# Altium schematic symbol library yu0316-NSC_LDO.SchLib: 2590 symbols (part 48 of 64)
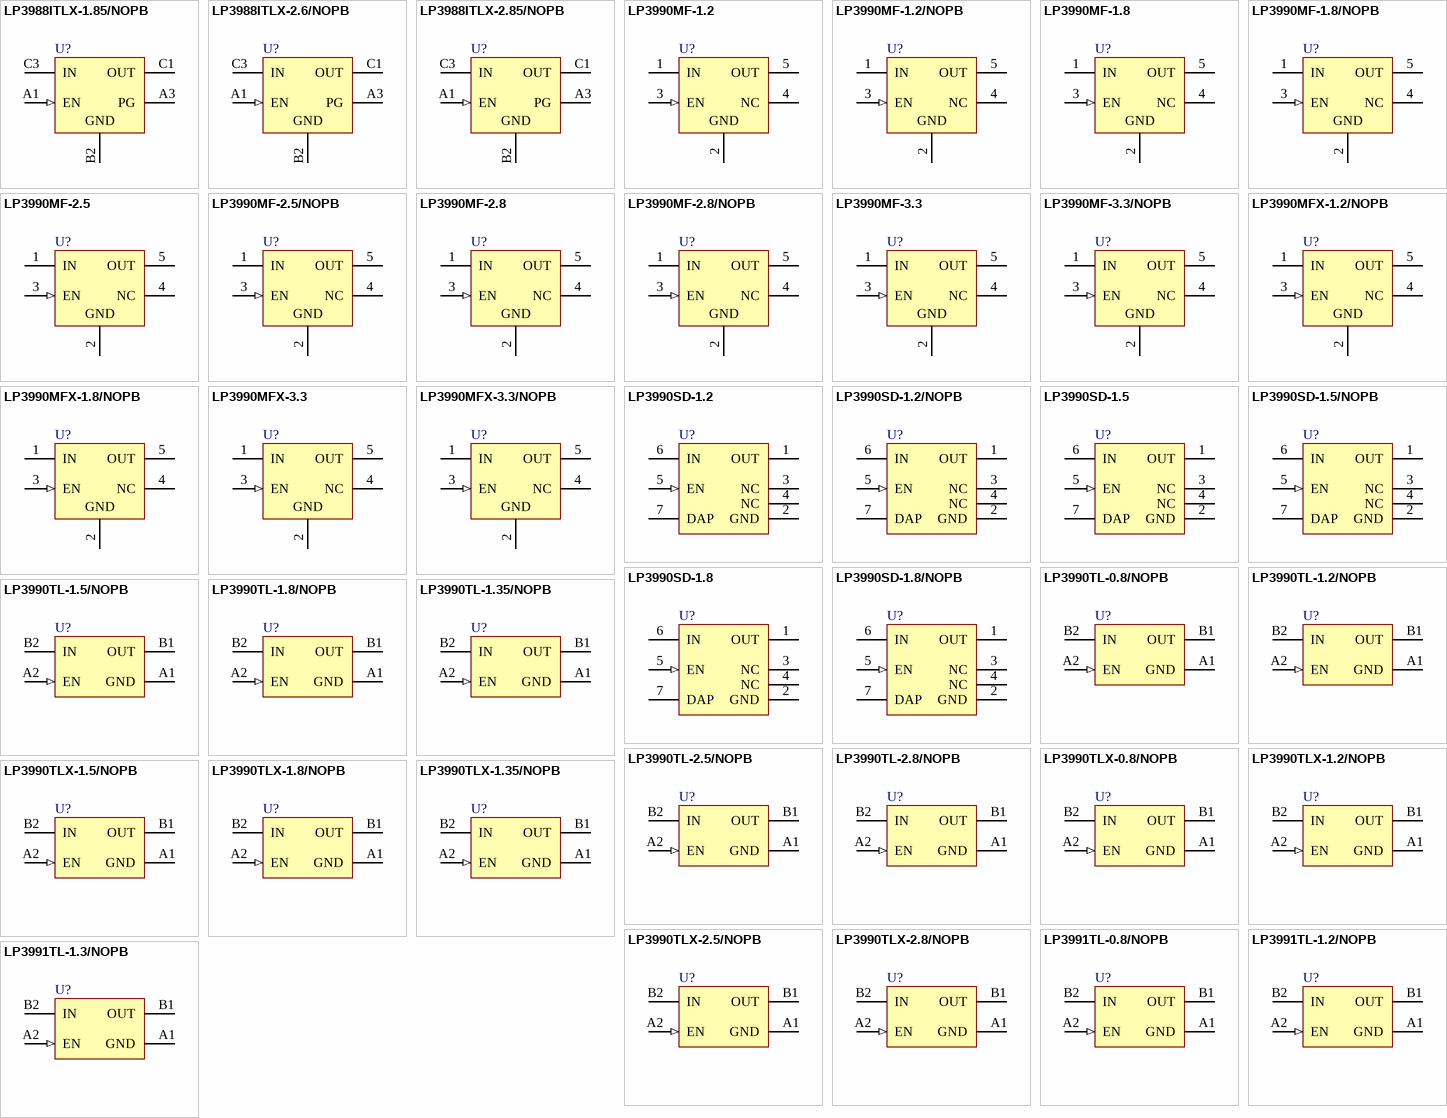
[diagram p112: symbols LP3988ITLX-1.85/NOPB to LP3991TL-1.3/NOPB]

## LP3990SD-1.2
designator U?
150mA Linear Voltage Regulator for Digital Applications, 6-pin LLP; PartNumber: LP3990SD-1.2; Manufacturer: National Semiconductor; PackageTopMarking: ZXYTT*L086B; PowerWise: N; CompType: LDO IC; Published: 4-Dec-2008; DatasheetVersion: Oct-2005; PackageVersion: revA, Jul-2003; PackageReference: SDE06A; Publisher: Altium Limited; PackageDescription: LLP, Plastic, Dual, 3 x 3 x 0.8mm Body, 6 Lead, 0.95mm Pitch, No Pullback; RoHS: N; PinCount: 6; ComponentLink1Description: LP3990 Datasheet; ComponentLink1URL: http://www.national.com/ds/LP/LP3990.pdf; ComponentLink2Description: LP3990 Web Page; ComponentLink2URL: http://www.national.com/pf/LP/LP3990.html; ComponentLink3Description: SDE06A Package Page; ComponentLink3URL: http://www.national.com/packaging/folders/sde06a.html
footprint SDE06A_full (SON, 6-Leads, Body 3x3 mm, Pitch 0.95mm, Full Paste, NSC Recommended)
footprint SDE06A_quad (SON, 6-Leads, Body 3x3 mm, Pitch 0.95mm, Quad Paste, NSC Recommended)
pins: 1 OUT (power), 2 GND (power), 3 NC, 4 NC, 5 EN (in), 6 IN (power), 7 DAP (power)

## LP3990SD-1.2/NOPB
designator U?
150mA Linear Voltage Regulator for Digital Applications, 6-pin LLP, Pb-Free; PartNumber: LP3990SD-1.2/NOPB; Manufacturer: National Semiconductor; PackageTopMarking: ZXYTT*L086B; PowerWise: N; CompType: LDO IC; Published: 1-Mar-2010; DatasheetVersion: Oct-2005; PackageVersion: revA, Jul-2003; PackageReference: SDE06A; Publisher: Altium Limited; PackageDescription: LLP, Plastic, Dual, 3 x 3 x 0.8mm Body, 6 Lead, 0.95mm Pitch, No Pullback; Supplier 1: Digi-Key; Supplier Part Number 1: LP3990SD-1.2TR-ND; Supplier 2: Digi-Key; Supplier Part Number 2: LP3990SD-1.2CT-ND; Supplier 3: Digi-Key; Supplier Part Number 3: LP3990SD-1.2DKR-ND; RoHS: Y; PinCount: 6; ComponentLink1Description: LP3990 Datasheet; ComponentLink1URL: http://www.national.com/ds/LP/LP3990.pdf; ComponentLink2Description: LP3990 Web Page; ComponentLink2URL: http://www.national.com/pf/LP/LP3990.html; ComponentLink3Description: SDE06A Package Page; ComponentLink3URL: http://www.national.com/packaging/folders/sde06a.html
footprint SDE06A_full (SON, 6-Leads, Body 3x3 mm, Pitch 0.95mm, Full Paste, NSC Recommended)
footprint SDE06A_quad (SON, 6-Leads, Body 3x3 mm, Pitch 0.95mm, Quad Paste, NSC Recommended)
pins: 1 OUT (power), 2 GND (power), 3 NC, 4 NC, 5 EN (in), 6 IN (power), 7 DAP (power)

## LP3990SD-1.5
designator U?
150mA Linear Voltage Regulator for Digital Applications, 6-pin LLP; PartNumber: LP3990SD-1.5; Manufacturer: National Semiconductor; PackageTopMarking: ZXYTT*L087B; PowerWise: N; CompType: LDO IC; Published: 4-Dec-2008; DatasheetVersion: Oct-2005; PackageVersion: revA, Jul-2003; PackageReference: SDE06A; Publisher: Altium Limited; PackageDescription: LLP, Plastic, Dual, 3 x 3 x 0.8mm Body, 6 Lead, 0.95mm Pitch, No Pullback; RoHS: N; PinCount: 6; ComponentLink1Description: LP3990 Datasheet; ComponentLink1URL: http://www.national.com/ds/LP/LP3990.pdf; ComponentLink2Description: LP3990 Web Page; ComponentLink2URL: http://www.national.com/pf/LP/LP3990.html; ComponentLink3Description: SDE06A Package Page; ComponentLink3URL: http://www.national.com/packaging/folders/sde06a.html
footprint SDE06A_full (SON, 6-Leads, Body 3x3 mm, Pitch 0.95mm, Full Paste, NSC Recommended)
footprint SDE06A_quad (SON, 6-Leads, Body 3x3 mm, Pitch 0.95mm, Quad Paste, NSC Recommended)
pins: 1 OUT (power), 2 GND (power), 3 NC, 4 NC, 5 EN (in), 6 IN (power), 7 DAP (power)

## LP3990SD-1.5/NOPB
designator U?
150mA Linear Voltage Regulator for Digital Applications, 6-pin LLP, Pb-Free; PartNumber: LP3990SD-1.5/NOPB; Manufacturer: National Semiconductor; PackageTopMarking: ZXYTT*L087B; PowerWise: N; CompType: LDO IC; Published: 1-Mar-2010; DatasheetVersion: Oct-2005; PackageVersion: revA, Jul-2003; PackageReference: SDE06A; Publisher: Altium Limited; PackageDescription: LLP, Plastic, Dual, 3 x 3 x 0.8mm Body, 6 Lead, 0.95mm Pitch, No Pullback; Supplier 1: Digi-Key; Supplier Part Number 1: LP3990SD-1.5TR-ND; Supplier 2: Digi-Key; Supplier Part Number 2: LP3990SD-1.5CT-ND; Supplier 3: Digi-Key; Supplier Part Number 3: LP3990SD-1.5DKR-ND; RoHS: Y; PinCount: 6; ComponentLink1Description: LP3990 Datasheet; ComponentLink1URL: http://www.national.com/ds/LP/LP3990.pdf; ComponentLink2Description: LP3990 Web Page; ComponentLink2URL: http://www.national.com/pf/LP/LP3990.html; ComponentLink3Description: SDE06A Package Page; ComponentLink3URL: http://www.national.com/packaging/folders/sde06a.html
footprint SDE06A_full (SON, 6-Leads, Body 3x3 mm, Pitch 0.95mm, Full Paste, NSC Recommended)
footprint SDE06A_quad (SON, 6-Leads, Body 3x3 mm, Pitch 0.95mm, Quad Paste, NSC Recommended)
pins: 1 OUT (power), 2 GND (power), 3 NC, 4 NC, 5 EN (in), 6 IN (power), 7 DAP (power)

## LP3990SD-1.8
designator U?
150mA Linear Voltage Regulator for Digital Applications, 6-pin LLP; PartNumber: LP3990SD-1.8; Manufacturer: National Semiconductor; PackageTopMarking: ZXYTT*L088B; PowerWise: N; CompType: LDO IC; Published: 4-Dec-2008; DatasheetVersion: Oct-2005; PackageVersion: revA, Jul-2003; PackageReference: SDE06A; Publisher: Altium Limited; PackageDescription: LLP, Plastic, Dual, 3 x 3 x 0.8mm Body, 6 Lead, 0.95mm Pitch, No Pullback; RoHS: N; PinCount: 6; ComponentLink1Description: LP3990 Datasheet; ComponentLink1URL: http://www.national.com/ds/LP/LP3990.pdf; ComponentLink2Description: LP3990 Web Page; ComponentLink2URL: http://www.national.com/pf/LP/LP3990.html; ComponentLink3Description: SDE06A Package Page; ComponentLink3URL: http://www.national.com/packaging/folders/sde06a.html
footprint SDE06A_full (SON, 6-Leads, Body 3x3 mm, Pitch 0.95mm, Full Paste, NSC Recommended)
footprint SDE06A_quad (SON, 6-Leads, Body 3x3 mm, Pitch 0.95mm, Quad Paste, NSC Recommended)
pins: 1 OUT (power), 2 GND (power), 3 NC, 4 NC, 5 EN (in), 6 IN (power), 7 DAP (power)

## LP3990SD-1.8/NOPB
designator U?
150mA Linear Voltage Regulator for Digital Applications, 6-pin LLP, Pb-Free; PartNumber: LP3990SD-1.8/NOPB; Manufacturer: National Semiconductor; PackageTopMarking: ZXYTT*L088B; PowerWise: N; CompType: LDO IC; Published: 1-Mar-2010; DatasheetVersion: Oct-2005; PackageVersion: revA, Jul-2003; PackageReference: SDE06A; Publisher: Altium Limited; PackageDescription: LLP, Plastic, Dual, 3 x 3 x 0.8mm Body, 6 Lead, 0.95mm Pitch, No Pullback; Supplier 1: Digi-Key; Supplier Part Number 1: LP3990SD-1.8TR-ND; Supplier 2: Digi-Key; Supplier Part Number 2: LP3990SD-1.8CT-ND; Supplier 3: Digi-Key; Supplier Part Number 3: LP3990SD-1.8DKR-ND; RoHS: Y; PinCount: 6; ComponentLink1Description: LP3990 Datasheet; ComponentLink1URL: http://www.national.com/ds/LP/LP3990.pdf; ComponentLink2Description: LP3990 Web Page; ComponentLink2URL: http://www.national.com/pf/LP/LP3990.html; ComponentLink3Description: SDE06A Package Page; ComponentLink3URL: http://www.national.com/packaging/folders/sde06a.html
footprint SDE06A_full (SON, 6-Leads, Body 3x3 mm, Pitch 0.95mm, Full Paste, NSC Recommended)
footprint SDE06A_quad (SON, 6-Leads, Body 3x3 mm, Pitch 0.95mm, Quad Paste, NSC Recommended)
pins: 1 OUT (power), 2 GND (power), 3 NC, 4 NC, 5 EN (in), 6 IN (power), 7 DAP (power)

## LP3990TL-0.8/NOPB
designator U?
150mA Linear Voltage Regulator for Digital Applications, 4-pin Micro SMD, Pb-Free; PartNumber: LP3990TL-0.8/NOPB; Manufacturer: National Semiconductor; PackageTopMarking: X*I; PowerWise: N; CompType: LDO IC; Published: 1-Mar-2010; DatasheetVersion: Oct-2005; PackageVersion: revD, Mar-2005; PackageReference: TLA04AMA; Publisher: Altium Limited; PackageDescription: Thin Micro SMD, 4 Bump (Large), 0.5mm Pitch; RoHS: Y; PinCount: 4; Code_JEDEC: MO-211-BA; ComponentLink1Description: LP3990 Datasheet; ComponentLink1URL: http://www.national.com/ds/LP/LP3990.pdf; ComponentLink2Description: LP3990 Web Page; ComponentLink2URL: http://www.national.com/pf/LP/LP3990.html; ComponentLink3Description: TLA04AMA Package Page; ComponentLink3URL: http://www.national.com/packaging/folders/tla04ama.html
footprint TLA04AMA (Micro SMD, 4-Leads, Body 1.29x1.01mm, Pitch 0.5mm, NSC Recommended)
pins: A1 GND (power), A2 EN (in), B1 OUT (power), B2 IN (power)

## LP3990TL-1.2/NOPB
designator U?
150mA Linear Voltage Regulator for Digital Applications, 4-pin Micro SMD, Pb-Free; PartNumber: LP3990TL-1.2/NOPB; Manufacturer: National Semiconductor; PackageTopMarking: X*I; PowerWise: N; CompType: LDO IC; Published: 1-Mar-2010; DatasheetVersion: Oct-2005; PackageVersion: revD, Mar-2005; PackageReference: TLA04AMA; Publisher: Altium Limited; PackageDescription: Thin Micro SMD, 4 Bump (Large), 0.5mm Pitch; Supplier 1: Digi-Key; Supplier Part Number 1: LP3990TL-1.2TR-ND; Supplier 2: Digi-Key; Supplier Part Number 2: LP3990TL-1.2CT-ND; Supplier 3: Digi-Key; Supplier Part Number 3: LP3990TL-1.2DKR-ND; RoHS: Y; PinCount: 4; Code_JEDEC: MO-211-BA; ComponentLink1Description: LP3990 Datasheet; ComponentLink1URL: http://www.national.com/ds/LP/LP3990.pdf; ComponentLink2Description: LP3990 Web Page; ComponentLink2URL: http://www.national.com/pf/LP/LP3990.html; ComponentLink3Description: TLA04AMA Package Page; ComponentLink3URL: http://www.national.com/packaging/folders/tla04ama.html
footprint TLA04AMA (Micro SMD, 4-Leads, Body 1.29x1.01mm, Pitch 0.5mm, NSC Recommended)
pins: A1 GND (power), A2 EN (in), B1 OUT (power), B2 IN (power)

## LP3990TL-1.5/NOPB
designator U?
150mA Linear Voltage Regulator for Digital Applications, 4-pin Micro SMD, Pb-Free; PartNumber: LP3990TL-1.5/NOPB; Manufacturer: National Semiconductor; PackageTopMarking: X*I; PowerWise: N; CompType: LDO IC; Published: 1-Mar-2010; DatasheetVersion: Oct-2005; PackageVersion: revD, Mar-2005; PackageReference: TLA04AMA; Publisher: Altium Limited; PackageDescription: Thin Micro SMD, 4 Bump (Large), 0.5mm Pitch; Supplier 1: Digi-Key; Supplier Part Number 1: LP3990TL-1.5TR-ND; Supplier 2: Digi-Key; Supplier Part Number 2: LP3990TL-1.5CT-ND; Supplier 3: Digi-Key; Supplier Part Number 3: LP3990TL-1.5DKR-ND; RoHS: Y; PinCount: 4; Code_JEDEC: MO-211-BA; ComponentLink1Description: LP3990 Datasheet; ComponentLink1URL: http://www.national.com/ds/LP/LP3990.pdf; ComponentLink2Description: LP3990 Web Page; ComponentLink2URL: http://www.national.com/pf/LP/LP3990.html; ComponentLink3Description: TLA04AMA Package Page; ComponentLink3URL: http://www.national.com/packaging/folders/tla04ama.html
footprint TLA04AMA (Micro SMD, 4-Leads, Body 1.29x1.01mm, Pitch 0.5mm, NSC Recommended)
pins: A1 GND (power), A2 EN (in), B1 OUT (power), B2 IN (power)

## LP3990TL-1.8/NOPB
designator U?
150mA Linear Voltage Regulator for Digital Applications, 4-pin Micro SMD, Pb-Free; PartNumber: LP3990TL-1.8/NOPB; Manufacturer: National Semiconductor; PackageTopMarking: X*I; PowerWise: N; CompType: LDO IC; Published: 1-Mar-2010; DatasheetVersion: Oct-2005; PackageVersion: revD, Mar-2005; PackageReference: TLA04AMA; Publisher: Altium Limited; PackageDescription: Thin Micro SMD, 4 Bump (Large), 0.5mm Pitch; Supplier 1: Digi-Key; Supplier Part Number 1: LP3990TL-1.8TR-ND; Supplier 2: Digi-Key; Supplier Part Number 2: LP3990TL-1.8CT-ND; Supplier 3: Digi-Key; Supplier Part Number 3: LP3990TL-1.8DKR-ND; Supplier 4: Farnell; Supplier Part Number 4: 1559711; RoHS: Y; PinCount: 4; Code_JEDEC: MO-211-BA; ComponentLink1Description: LP3990 Datasheet; ComponentLink1URL: http://www.national.com/ds/LP/LP3990.pdf; ComponentLink2Description: LP3990 Web Page; ComponentLink2URL: http://www.national.com/pf/LP/LP3990.html; ComponentLink3Description: TLA04AMA Package Page; ComponentLink3URL: http://www.national.com/packaging/folders/tla04ama.html
footprint TLA04AMA (Micro SMD, 4-Leads, Body 1.29x1.01mm, Pitch 0.5mm, NSC Recommended)
pins: A1 GND (power), A2 EN (in), B1 OUT (power), B2 IN (power)

## LP3990TL-1.35/NOPB
designator U?
150mA Linear Voltage Regulator for Digital Applications, 4-pin Micro SMD, Pb-Free; PartNumber: LP3990TL-1.35/NOPB; Manufacturer: National Semiconductor; PackageTopMarking: X*I; PowerWise: N; CompType: LDO IC; Published: 1-Mar-2010; DatasheetVersion: Oct-2005; PackageVersion: revD, Mar-2005; PackageReference: TLA04AMA; Publisher: Altium Limited; PackageDescription: Thin Micro SMD, 4 Bump (Large), 0.5mm Pitch; RoHS: Y; PinCount: 4; Code_JEDEC: MO-211-BA; ComponentLink1Description: LP3990 Datasheet; ComponentLink1URL: http://www.national.com/ds/LP/LP3990.pdf; ComponentLink2Description: LP3990 Web Page; ComponentLink2URL: http://www.national.com/pf/LP/LP3990.html; ComponentLink3Description: TLA04AMA Package Page; ComponentLink3URL: http://www.national.com/packaging/folders/tla04ama.html
footprint TLA04AMA (Micro SMD, 4-Leads, Body 1.29x1.01mm, Pitch 0.5mm, NSC Recommended)
pins: A1 GND (power), A2 EN (in), B1 OUT (power), B2 IN (power)

## LP3990TL-2.5/NOPB
designator U?
150mA Linear Voltage Regulator for Digital Applications, 4-pin Micro SMD, Pb-Free; PartNumber: LP3990TL-2.5/NOPB; Manufacturer: National Semiconductor; PackageTopMarking: X*I; PowerWise: N; CompType: LDO IC; Published: 1-Mar-2010; DatasheetVersion: Oct-2005; PackageVersion: revD, Mar-2005; PackageReference: TLA04AMA; Publisher: Altium Limited; PackageDescription: Thin Micro SMD, 4 Bump (Large), 0.5mm Pitch; Supplier 1: Digi-Key; Supplier Part Number 1: LP3990TL-2.5TR-ND; Supplier 2: Digi-Key; Supplier Part Number 2: LP3990TL-2.5CT-ND; Supplier 3: Digi-Key; Supplier Part Number 3: LP3990TL-2.5DKR-ND; RoHS: Y; PinCount: 4; Code_JEDEC: MO-211-BA; ComponentLink1Description: LP3990 Datasheet; ComponentLink1URL: http://www.national.com/ds/LP/LP3990.pdf; ComponentLink2Description: LP3990 Web Page; ComponentLink2URL: http://www.national.com/pf/LP/LP3990.html; ComponentLink3Description: TLA04AMA Package Page; ComponentLink3URL: http://www.national.com/packaging/folders/tla04ama.html
footprint TLA04AMA (Micro SMD, 4-Leads, Body 1.29x1.01mm, Pitch 0.5mm, NSC Recommended)
pins: A1 GND (power), A2 EN (in), B1 OUT (power), B2 IN (power)

## LP3990TL-2.8/NOPB
designator U?
150mA Linear Voltage Regulator for Digital Applications, 4-pin Micro SMD, Pb-Free; PartNumber: LP3990TL-2.8/NOPB; Manufacturer: National Semiconductor; PackageTopMarking: X*I; PowerWise: N; CompType: LDO IC; Published: 1-Mar-2010; DatasheetVersion: Oct-2005; PackageVersion: revD, Mar-2005; PackageReference: TLA04AMA; Publisher: Altium Limited; PackageDescription: Thin Micro SMD, 4 Bump (Large), 0.5mm Pitch; Supplier 1: Digi-Key; Supplier Part Number 1: LP3990TL-2.8TR-ND; Supplier 2: Digi-Key; Supplier Part Number 2: LP3990TL-2.8CT-ND; Supplier 3: Digi-Key; Supplier Part Number 3: LP3990TL-2.8DKR-ND; RoHS: Y; PinCount: 4; Code_JEDEC: MO-211-BA; ComponentLink1Description: LP3990 Datasheet; ComponentLink1URL: http://www.national.com/ds/LP/LP3990.pdf; ComponentLink2Description: LP3990 Web Page; ComponentLink2URL: http://www.national.com/pf/LP/LP3990.html; ComponentLink3Description: TLA04AMA Package Page; ComponentLink3URL: http://www.national.com/packaging/folders/tla04ama.html
footprint TLA04AMA (Micro SMD, 4-Leads, Body 1.29x1.01mm, Pitch 0.5mm, NSC Recommended)
pins: A1 GND (power), A2 EN (in), B1 OUT (power), B2 IN (power)

## LP3990TLX-0.8/NOPB
designator U?
150mA Linear Voltage Regulator for Digital Applications, 4-pin Micro SMD, Pb-Free; PartNumber: LP3990TLX-0.8/NOPB; Manufacturer: National Semiconductor; PackageTopMarking: X*I; PowerWise: N; CompType: LDO IC; Published: 1-Mar-2010; DatasheetVersion: Oct-2005; PackageVersion: revD, Mar-2005; PackageReference: TLA04AMA; Publisher: Altium Limited; PackageDescription: Thin Micro SMD, 4 Bump (Large), 0.5mm Pitch; Supplier 1: Digi-Key; Supplier Part Number 1: LP3990TLX-0.8-ND; RoHS: Y; PinCount: 4; Code_JEDEC: MO-211-BA; ComponentLink1Description: LP3990 Datasheet; ComponentLink1URL: http://www.national.com/ds/LP/LP3990.pdf; ComponentLink2Description: LP3990 Web Page; ComponentLink2URL: http://www.national.com/pf/LP/LP3990.html; ComponentLink3Description: TLA04AMA Package Page; ComponentLink3URL: http://www.national.com/packaging/folders/tla04ama.html
footprint TLA04AMA (Micro SMD, 4-Leads, Body 1.29x1.01mm, Pitch 0.5mm, NSC Recommended)
pins: A1 GND (power), A2 EN (in), B1 OUT (power), B2 IN (power)

## LP3990TLX-1.2/NOPB
designator U?
150mA Linear Voltage Regulator for Digital Applications, 4-pin Micro SMD, Pb-Free; PartNumber: LP3990TLX-1.2/NOPB; Manufacturer: National Semiconductor; PackageTopMarking: X*I; PowerWise: N; CompType: LDO IC; Published: 1-Mar-2010; DatasheetVersion: Oct-2005; PackageVersion: revD, Mar-2005; PackageReference: TLA04AMA; Publisher: Altium Limited; PackageDescription: Thin Micro SMD, 4 Bump (Large), 0.5mm Pitch; Supplier 1: Digi-Key; Supplier Part Number 1: LP3990TLX-1.2-ND; RoHS: Y; PinCount: 4; Code_JEDEC: MO-211-BA; ComponentLink1Description: LP3990 Datasheet; ComponentLink1URL: http://www.national.com/ds/LP/LP3990.pdf; ComponentLink2Description: LP3990 Web Page; ComponentLink2URL: http://www.national.com/pf/LP/LP3990.html; ComponentLink3Description: TLA04AMA Package Page; ComponentLink3URL: http://www.national.com/packaging/folders/tla04ama.html
footprint TLA04AMA (Micro SMD, 4-Leads, Body 1.29x1.01mm, Pitch 0.5mm, NSC Recommended)
pins: A1 GND (power), A2 EN (in), B1 OUT (power), B2 IN (power)

## LP3990TLX-1.5/NOPB
designator U?
150mA Linear Voltage Regulator for Digital Applications, 4-pin Micro SMD, Pb-Free; PartNumber: LP3990TLX-1.5/NOPB; Manufacturer: National Semiconductor; PackageTopMarking: X*I; PowerWise: N; CompType: LDO IC; Published: 1-Mar-2010; DatasheetVersion: Oct-2005; PackageVersion: revD, Mar-2005; PackageReference: TLA04AMA; Publisher: Altium Limited; PackageDescription: Thin Micro SMD, 4 Bump (Large), 0.5mm Pitch; Supplier 1: Digi-Key; Supplier Part Number 1: LP3990TLX-1.5-ND; RoHS: Y; PinCount: 4; Code_JEDEC: MO-211-BA; ComponentLink1Description: LP3990 Datasheet; ComponentLink1URL: http://www.national.com/ds/LP/LP3990.pdf; ComponentLink2Description: LP3990 Web Page; ComponentLink2URL: http://www.national.com/pf/LP/LP3990.html; ComponentLink3Description: TLA04AMA Package Page; ComponentLink3URL: http://www.national.com/packaging/folders/tla04ama.html
footprint TLA04AMA (Micro SMD, 4-Leads, Body 1.29x1.01mm, Pitch 0.5mm, NSC Recommended)
pins: A1 GND (power), A2 EN (in), B1 OUT (power), B2 IN (power)

## LP3990TLX-1.8/NOPB
designator U?
150mA Linear Voltage Regulator for Digital Applications, 4-pin Micro SMD, Pb-Free; PartNumber: LP3990TLX-1.8/NOPB; Manufacturer: National Semiconductor; PackageTopMarking: X*I; PowerWise: N; CompType: LDO IC; Published: 1-Mar-2010; DatasheetVersion: Oct-2005; PackageVersion: revD, Mar-2005; PackageReference: TLA04AMA; Publisher: Altium Limited; PackageDescription: Thin Micro SMD, 4 Bump (Large), 0.5mm Pitch; Supplier 1: Digi-Key; Supplier Part Number 1: LP3990TLX-1.8-ND; RoHS: Y; PinCount: 4; Code_JEDEC: MO-211-BA; ComponentLink1Description: LP3990 Datasheet; ComponentLink1URL: http://www.national.com/ds/LP/LP3990.pdf; ComponentLink2Description: LP3990 Web Page; ComponentLink2URL: http://www.national.com/pf/LP/LP3990.html; ComponentLink3Description: TLA04AMA Package Page; ComponentLink3URL: http://www.national.com/packaging/folders/tla04ama.html
footprint TLA04AMA (Micro SMD, 4-Leads, Body 1.29x1.01mm, Pitch 0.5mm, NSC Recommended)
pins: A1 GND (power), A2 EN (in), B1 OUT (power), B2 IN (power)

## LP3990TLX-1.35/NOPB
designator U?
150mA Linear Voltage Regulator for Digital Applications, 4-pin Micro SMD, Pb-Free; PartNumber: LP3990TLX-1.35/NOPB; Manufacturer: National Semiconductor; PackageTopMarking: X*I; PowerWise: N; CompType: LDO IC; Published: 1-Mar-2010; DatasheetVersion: Oct-2005; PackageVersion: revD, Mar-2005; PackageReference: TLA04AMA; Publisher: Altium Limited; PackageDescription: Thin Micro SMD, 4 Bump (Large), 0.5mm Pitch; Supplier 1: Digi-Key; Supplier Part Number 1: LP3990TLX-1.35-ND; RoHS: Y; PinCount: 4; Code_JEDEC: MO-211-BA; ComponentLink1Description: LP3990 Datasheet; ComponentLink1URL: http://www.national.com/ds/LP/LP3990.pdf; ComponentLink2Description: LP3990 Web Page; ComponentLink2URL: http://www.national.com/pf/LP/LP3990.html; ComponentLink3Description: TLA04AMA Package Page; ComponentLink3URL: http://www.national.com/packaging/folders/tla04ama.html
footprint TLA04AMA (Micro SMD, 4-Leads, Body 1.29x1.01mm, Pitch 0.5mm, NSC Recommended)
pins: A1 GND (power), A2 EN (in), B1 OUT (power), B2 IN (power)

## LP3990TLX-2.5/NOPB
designator U?
150mA Linear Voltage Regulator for Digital Applications, 4-pin Micro SMD, Pb-Free; PartNumber: LP3990TLX-2.5/NOPB; Manufacturer: National Semiconductor; PackageTopMarking: X*I; PowerWise: N; CompType: LDO IC; Published: 1-Mar-2010; DatasheetVersion: Oct-2005; PackageVersion: revD, Mar-2005; PackageReference: TLA04AMA; Publisher: Altium Limited; PackageDescription: Thin Micro SMD, 4 Bump (Large), 0.5mm Pitch; Supplier 1: Digi-Key; Supplier Part Number 1: LP3990TLX-2.5-ND; RoHS: Y; PinCount: 4; Code_JEDEC: MO-211-BA; ComponentLink1Description: LP3990 Datasheet; ComponentLink1URL: http://www.national.com/ds/LP/LP3990.pdf; ComponentLink2Description: LP3990 Web Page; ComponentLink2URL: http://www.national.com/pf/LP/LP3990.html; ComponentLink3Description: TLA04AMA Package Page; ComponentLink3URL: http://www.national.com/packaging/folders/tla04ama.html
footprint TLA04AMA (Micro SMD, 4-Leads, Body 1.29x1.01mm, Pitch 0.5mm, NSC Recommended)
pins: A1 GND (power), A2 EN (in), B1 OUT (power), B2 IN (power)

## LP3990TLX-2.8/NOPB
designator U?
150mA Linear Voltage Regulator for Digital Applications, 4-pin Micro SMD, Pb-Free; PartNumber: LP3990TLX-2.8/NOPB; Manufacturer: National Semiconductor; PackageTopMarking: X*I; PowerWise: N; CompType: LDO IC; Published: 1-Mar-2010; DatasheetVersion: Oct-2005; PackageVersion: revD, Mar-2005; PackageReference: TLA04AMA; Publisher: Altium Limited; PackageDescription: Thin Micro SMD, 4 Bump (Large), 0.5mm Pitch; Supplier 1: Digi-Key; Supplier Part Number 1: LP3990TLX-2.8-ND; RoHS: Y; PinCount: 4; Code_JEDEC: MO-211-BA; ComponentLink1Description: LP3990 Datasheet; ComponentLink1URL: http://www.national.com/ds/LP/LP3990.pdf; ComponentLink2Description: LP3990 Web Page; ComponentLink2URL: http://www.national.com/pf/LP/LP3990.html; ComponentLink3Description: TLA04AMA Package Page; ComponentLink3URL: http://www.national.com/packaging/folders/tla04ama.html
footprint TLA04AMA (Micro SMD, 4-Leads, Body 1.29x1.01mm, Pitch 0.5mm, NSC Recommended)
pins: A1 GND (power), A2 EN (in), B1 OUT (power), B2 IN (power)

## LP3991TL-0.8/NOPB
designator U?
300mA Linear Voltage Regulator for Digital Applications, 4-pin Micro SMD, Pb-Free; PartNumber: LP3991TL-0.8/NOPB; Manufacturer: National Semiconductor; PackageTopMarking: X*I; PowerWise: N; CompType: LDO IC; Published: 1-Mar-2010; DatasheetVersion: Sep-2008; PackageVersion: revD, Mar-2005; PackageReference: TLA04ZTA; Publisher: Altium Limited; PackageDescription: Thin Micro SMD, 4 Bump (Large), 0.5mm Pitch; Supplier 1: Digi-Key; Supplier Part Number 1: LP3991TL-0.8/NOPBTR-ND; Supplier 2: Digi-Key; Supplier Part Number 2: LP3991TL-0.8/NOPBCT-ND; Supplier 3: Digi-Key; Supplier Part Number 3: LP3991TL-0.8/NOPBDKR-ND; RoHS: Y; PinCount: 4; Code_JEDEC: MO-211-BA; ComponentLink1Description: LP3991 Datasheet; ComponentLink1URL: http://www.national.com/ds/LP/LP3991.pdf; ComponentLink2Description: LP3991 Web Page; ComponentLink2URL: http://www.national.com/pf/LP/LP3991.html; ComponentLink3Description: TLA04ZTA Package Page; ComponentLink3URL: http://www.national.com/packaging/folders/tla04zta.html
footprint TLA04ZTA (Micro SMD, 4-Leads, Body 1.45x0.96mm, Pitch 0.5mm, NSC Recommended)
pins: A1 GND (power), A2 EN (in), B1 OUT (power), B2 IN (power)

## LP3991TL-1.2/NOPB
designator U?
300mA Linear Voltage Regulator for Digital Applications, 4-pin Micro SMD, Pb-Free; PartNumber: LP3991TL-1.2/NOPB; Manufacturer: National Semiconductor; PackageTopMarking: X*I; PowerWise: Y; CompType: LDO IC; Published: 1-Mar-2010; DatasheetVersion: Sep-2008; PackageVersion: revD, Mar-2005; PackageReference: TLA04ZTA; Publisher: Altium Limited; PackageDescription: Thin Micro SMD, 4 Bump (Large), 0.5mm Pitch; Supplier 1: Digi-Key; Supplier Part Number 1: LP3991TL-1.2TR-ND; Supplier 2: Digi-Key; Supplier Part Number 2: LP3991TL-1.2CT-ND; Supplier 3: Digi-Key; Supplier Part Number 3: LP3991TL-1.2DKR-ND; RoHS: Y; PinCount: 4; Code_JEDEC: MO-211-BA; ComponentLink1Description: LP3991 Datasheet; ComponentLink1URL: http://www.national.com/ds/LP/LP3991.pdf; ComponentLink2Description: LP3991 Web Page; ComponentLink2URL: http://www.national.com/pf/LP/LP3991.html; ComponentLink3Description: TLA04ZTA Package Page; ComponentLink3URL: http://www.national.com/packaging/folders/tla04zta.html
footprint TLA04ZTA (Micro SMD, 4-Leads, Body 1.45x0.96mm, Pitch 0.5mm, NSC Recommended)
pins: A1 GND (power), A2 EN (in), B1 OUT (power), B2 IN (power)

## LP3991TL-1.3/NOPB
designator U?
300mA Linear Voltage Regulator for Digital Applications, 4-pin Micro SMD, Pb-Free; PartNumber: LP3991TL-1.3/NOPB; Manufacturer: National Semiconductor; PackageTopMarking: X*I; PowerWise: Y; CompType: LDO IC; Published: 1-Mar-2010; DatasheetVersion: Sep-2008; PackageVersion: revD, Mar-2005; PackageReference: TLA04ZTA; Publisher: Altium Limited; PackageDescription: Thin Micro SMD, 4 Bump (Large), 0.5mm Pitch; Supplier 1: Digi-Key; Supplier Part Number 1: LP3991TL-1.3TR-ND; Supplier 2: Digi-Key; Supplier Part Number 2: LP3991TL-1.3CT-ND; RoHS: Y; PinCount: 4; Code_JEDEC: MO-211-BA; ComponentLink1Description: LP3991 Datasheet; ComponentLink1URL: http://www.national.com/ds/LP/LP3991.pdf; ComponentLink2Description: LP3991 Web Page; ComponentLink2URL: http://www.national.com/pf/LP/LP3991.html; ComponentLink3Description: TLA04ZTA Package Page; ComponentLink3URL: http://www.national.com/packaging/folders/tla04zta.html
footprint TLA04ZTA (Micro SMD, 4-Leads, Body 1.45x0.96mm, Pitch 0.5mm, NSC Recommended)
pins: A1 GND (power), A2 EN (in), B1 OUT (power), B2 IN (power)

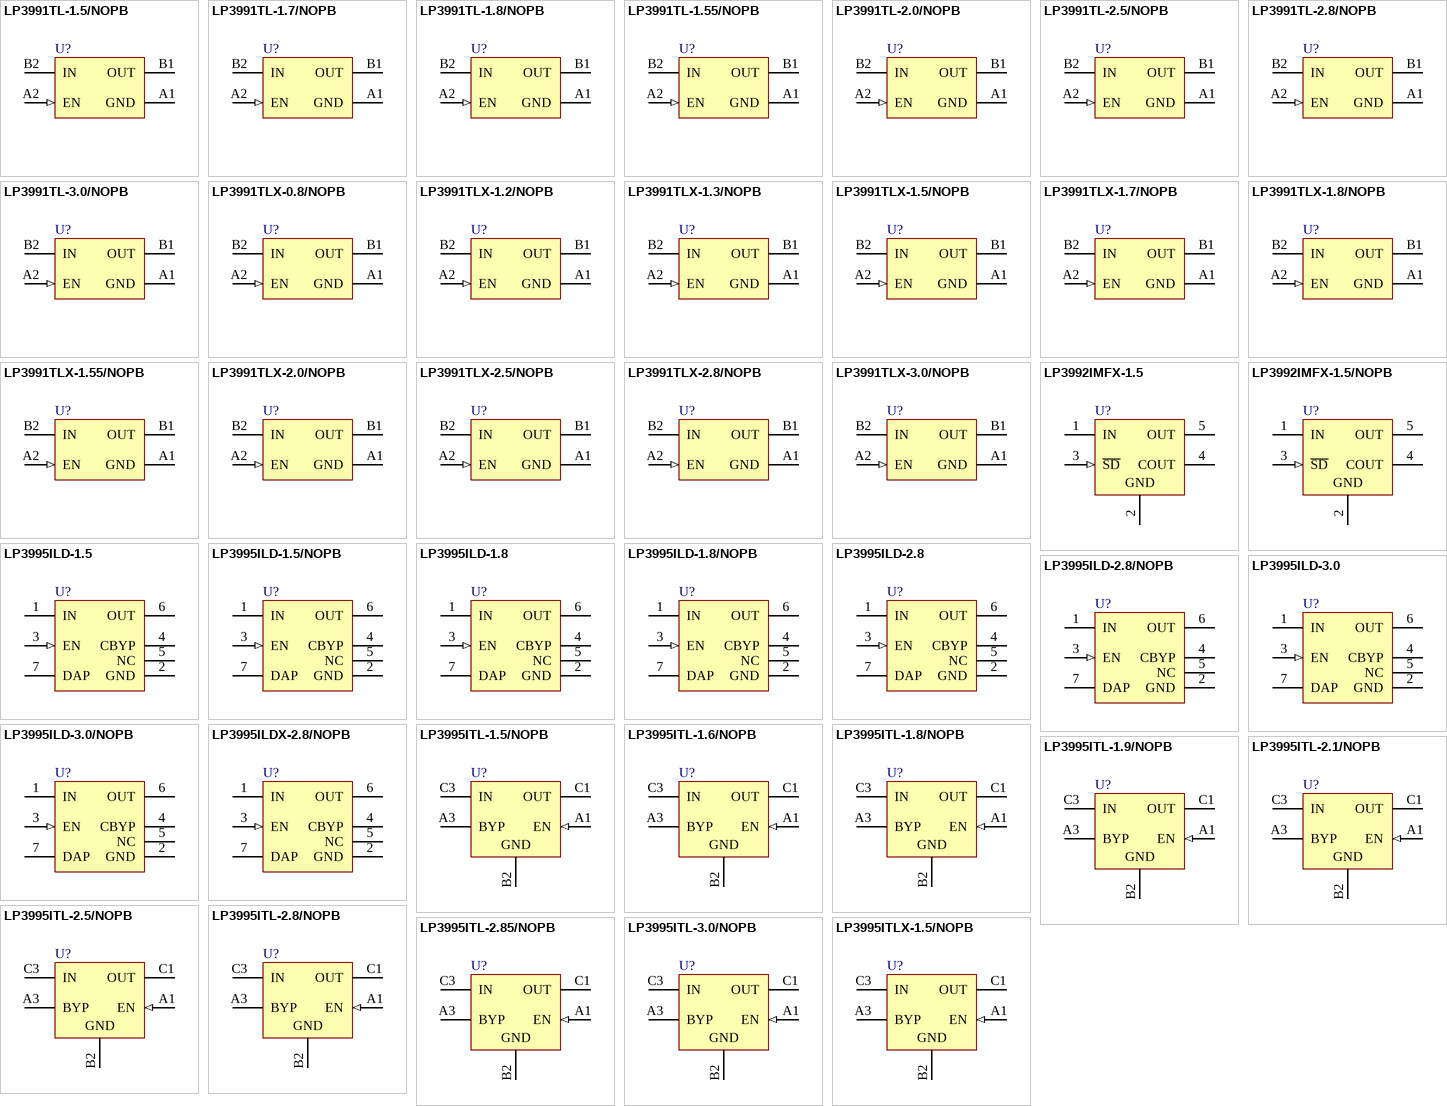
[diagram p49: symbols LP3991TL-1.5/NOPB to LP3995ITLX-1.5/NOPB]

## LP3991TL-1.5/NOPB
designator U?
300mA Linear Voltage Regulator for Digital Applications, 4-pin Micro SMD, Pb-Free; PartNumber: LP3991TL-1.5/NOPB; Manufacturer: National Semiconductor; PackageTopMarking: X*I; PowerWise: Y; CompType: LDO IC; Published: 1-Mar-2010; DatasheetVersion: Sep-2008; PackageVersion: revD, Mar-2005; PackageReference: TLA04ZTA; Publisher: Altium Limited; PackageDescription: Thin Micro SMD, 4 Bump (Large), 0.5mm Pitch; Supplier 1: Digi-Key; Supplier Part Number 1: LP3991TL-1.5TR-ND; Supplier 2: Digi-Key; Supplier Part Number 2: LP3991TL-1.5CT-ND; Supplier 3: Digi-Key; Supplier Part Number 3: LP3991TL-1.5DKR-ND; RoHS: Y; PinCount: 4; Code_JEDEC: MO-211-BA; ComponentLink1Description: LP3991 Datasheet; ComponentLink1URL: http://www.national.com/ds/LP/LP3991.pdf; ComponentLink2Description: LP3991 Web Page; ComponentLink2URL: http://www.national.com/pf/LP/LP3991.html; ComponentLink3Description: TLA04ZTA Package Page; ComponentLink3URL: http://www.national.com/packaging/folders/tla04zta.html
footprint TLA04ZTA (Micro SMD, 4-Leads, Body 1.45x0.96mm, Pitch 0.5mm, NSC Recommended)
pins: A1 GND (power), A2 EN (in), B1 OUT (power), B2 IN (power)

## LP3991TL-1.7/NOPB
designator U?
300mA Linear Voltage Regulator for Digital Applications, 4-pin Micro SMD, Pb-Free; PartNumber: LP3991TL-1.7/NOPB; Manufacturer: National Semiconductor; PackageTopMarking: X*I; PowerWise: N; CompType: LDO IC; Published: 1-Mar-2010; DatasheetVersion: Sep-2008; PackageVersion: revD, Mar-2005; PackageReference: TLA04ZTA; Publisher: Altium Limited; PackageDescription: Thin Micro SMD, 4 Bump (Large), 0.5mm Pitch; Supplier 1: Digi-Key; Supplier Part Number 1: LP3991TL-1.7/NOPBTR-ND; Supplier 2: Digi-Key; Supplier Part Number 2: LP3991TL-1.7/NOPBCT-ND; Supplier 3: Digi-Key; Supplier Part Number 3: LP3991TL-1.7/NOPBDKR-ND; RoHS: Y; PinCount: 4; Code_JEDEC: MO-211-BA; ComponentLink1Description: LP3991 Datasheet; ComponentLink1URL: http://www.national.com/ds/LP/LP3991.pdf; ComponentLink2Description: LP3991 Web Page; ComponentLink2URL: http://www.national.com/pf/LP/LP3991.html; ComponentLink3Description: TLA04ZTA Package Page; ComponentLink3URL: http://www.national.com/packaging/folders/tla04zta.html
footprint TLA04ZTA (Micro SMD, 4-Leads, Body 1.45x0.96mm, Pitch 0.5mm, NSC Recommended)
pins: A1 GND (power), A2 EN (in), B1 OUT (power), B2 IN (power)

## LP3991TL-1.8/NOPB
designator U?
300mA Linear Voltage Regulator for Digital Applications, 4-pin Micro SMD, Pb-Free; PartNumber: LP3991TL-1.8/NOPB; Manufacturer: National Semiconductor; PackageTopMarking: X*I; PowerWise: N; CompType: LDO IC; Published: 1-Mar-2010; DatasheetVersion: Sep-2008; PackageVersion: revD, Mar-2005; PackageReference: TLA04ZTA; Publisher: Altium Limited; PackageDescription: Thin Micro SMD, 4 Bump (Large), 0.5mm Pitch; Supplier 1: Digi-Key; Supplier Part Number 1: LP3991TL-1.8TR-ND; Supplier 2: Digi-Key; Supplier Part Number 2: LP3991TL-1.8CT-ND; Supplier 3: Digi-Key; Supplier Part Number 3: LP3991TL-1.8DKR-ND; RoHS: Y; PinCount: 4; Code_JEDEC: MO-211-BA; ComponentLink1Description: LP3991 Datasheet; ComponentLink1URL: http://www.national.com/ds/LP/LP3991.pdf; ComponentLink2Description: LP3991 Web Page; ComponentLink2URL: http://www.national.com/pf/LP/LP3991.html; ComponentLink3Description: TLA04ZTA Package Page; ComponentLink3URL: http://www.national.com/packaging/folders/tla04zta.html
footprint TLA04ZTA (Micro SMD, 4-Leads, Body 1.45x0.96mm, Pitch 0.5mm, NSC Recommended)
pins: A1 GND (power), A2 EN (in), B1 OUT (power), B2 IN (power)

## LP3991TL-1.55/NOPB
designator U?
300mA Linear Voltage Regulator for Digital Applications, 4-pin Micro SMD, Pb-Free; PartNumber: LP3991TL-1.55/NOPB; Manufacturer: National Semiconductor; PackageTopMarking: X*I; PowerWise: N; CompType: LDO IC; Published: 1-Mar-2010; DatasheetVersion: Sep-2008; PackageVersion: revD, Mar-2005; PackageReference: TLA04ZTA; Publisher: Altium Limited; PackageDescription: Thin Micro SMD, 4 Bump (Large), 0.5mm Pitch; Supplier 1: Digi-Key; Supplier Part Number 1: LP3991TL-1.55/NOPBTR-ND; Supplier 2: Digi-Key; Supplier Part Number 2: LP3991TL-1.55/NOPBCT-ND; Supplier 3: Digi-Key; Supplier Part Number 3: LP3991TL-1.55/NOPBDKR-ND; RoHS: Y; PinCount: 4; Code_JEDEC: MO-211-BA; ComponentLink1Description: LP3991 Datasheet; ComponentLink1URL: http://www.national.com/ds/LP/LP3991.pdf; ComponentLink2Description: LP3991 Web Page; ComponentLink2URL: http://www.national.com/pf/LP/LP3991.html; ComponentLink3Description: TLA04ZTA Package Page; ComponentLink3URL: http://www.national.com/packaging/folders/tla04zta.html
footprint TLA04ZTA (Micro SMD, 4-Leads, Body 1.45x0.96mm, Pitch 0.5mm, NSC Recommended)
pins: A1 GND (power), A2 EN (in), B1 OUT (power), B2 IN (power)

## LP3991TL-2.0/NOPB
designator U?
300mA Linear Voltage Regulator for Digital Applications, 4-pin Micro SMD, Pb-Free; PartNumber: LP3991TL-2.0/NOPB; Manufacturer: National Semiconductor; PackageTopMarking: X*I; PowerWise: N; CompType: LDO IC; Published: 1-Mar-2010; DatasheetVersion: Sep-2008; PackageVersion: revD, Mar-2005; PackageReference: TLA04ZTA; Publisher: Altium Limited; PackageDescription: Thin Micro SMD, 4 Bump (Large), 0.5mm Pitch; Supplier 1: Digi-Key; Supplier Part Number 1: LP3991TL-2.0/NOPBTR-ND; Supplier 2: Digi-Key; Supplier Part Number 2: LP3991TL-2.0/NOPBCT-ND; Supplier 3: Digi-Key; Supplier Part Number 3: LP3991TL-2.0/NOPBDKR-ND; RoHS: Y; PinCount: 4; Code_JEDEC: MO-211-BA; ComponentLink1Description: LP3991 Datasheet; ComponentLink1URL: http://www.national.com/ds/LP/LP3991.pdf; ComponentLink2Description: LP3991 Web Page; ComponentLink2URL: http://www.national.com/pf/LP/LP3991.html; ComponentLink3Description: TLA04ZTA Package Page; ComponentLink3URL: http://www.national.com/packaging/folders/tla04zta.html
footprint TLA04ZTA (Micro SMD, 4-Leads, Body 1.45x0.96mm, Pitch 0.5mm, NSC Recommended)
pins: A1 GND (power), A2 EN (in), B1 OUT (power), B2 IN (power)

## LP3991TL-2.5/NOPB
designator U?
300mA Linear Voltage Regulator for Digital Applications, 4-pin Micro SMD, Pb-Free; PartNumber: LP3991TL-2.5/NOPB; Manufacturer: National Semiconductor; PackageTopMarking: X*I; PowerWise: N; CompType: LDO IC; Published: 1-Mar-2010; DatasheetVersion: Sep-2008; PackageVersion: revD, Mar-2005; PackageReference: TLA04ZTA; Publisher: Altium Limited; PackageDescription: Thin Micro SMD, 4 Bump (Large), 0.5mm Pitch; Supplier 1: Digi-Key; Supplier Part Number 1: LP3991TL-2.5/NOPBTR-ND; Supplier 2: Digi-Key; Supplier Part Number 2: LP3991TL-2.5/NOPBCT-ND; Supplier 3: Digi-Key; Supplier Part Number 3: LP3991TL-2.5/NOPBDKR-ND; RoHS: Y; PinCount: 4; Code_JEDEC: MO-211-BA; ComponentLink1Description: LP3991 Datasheet; ComponentLink1URL: http://www.national.com/ds/LP/LP3991.pdf; ComponentLink2Description: LP3991 Web Page; ComponentLink2URL: http://www.national.com/pf/LP/LP3991.html; ComponentLink3Description: TLA04ZTA Package Page; ComponentLink3URL: http://www.national.com/packaging/folders/tla04zta.html
footprint TLA04ZTA (Micro SMD, 4-Leads, Body 1.45x0.96mm, Pitch 0.5mm, NSC Recommended)
pins: A1 GND (power), A2 EN (in), B1 OUT (power), B2 IN (power)

## LP3991TL-2.8/NOPB
designator U?
300mA Linear Voltage Regulator for Digital Applications, 4-pin Micro SMD, Pb-Free; PartNumber: LP3991TL-2.8/NOPB; Manufacturer: National Semiconductor; PackageTopMarking: X*I; PowerWise: Y; CompType: LDO IC; Published: 1-Mar-2010; DatasheetVersion: Sep-2008; PackageVersion: revD, Mar-2005; PackageReference: TLA04ZTA; Publisher: Altium Limited; PackageDescription: Thin Micro SMD, 4 Bump (Large), 0.5mm Pitch; Supplier 1: Digi-Key; Supplier Part Number 1: LP3991TL-2.8TR-ND; Supplier 2: Digi-Key; Supplier Part Number 2: LP3991TL-2.8CT-ND; Supplier 3: Digi-Key; Supplier Part Number 3: LP3991TL-2.8DKR-ND; RoHS: Y; PinCount: 4; Code_JEDEC: MO-211-BA; ComponentLink1Description: LP3991 Datasheet; ComponentLink1URL: http://www.national.com/ds/LP/LP3991.pdf; ComponentLink2Description: LP3991 Web Page; ComponentLink2URL: http://www.national.com/pf/LP/LP3991.html; ComponentLink3Description: TLA04ZTA Package Page; ComponentLink3URL: http://www.national.com/packaging/folders/tla04zta.html
footprint TLA04ZTA (Micro SMD, 4-Leads, Body 1.45x0.96mm, Pitch 0.5mm, NSC Recommended)
pins: A1 GND (power), A2 EN (in), B1 OUT (power), B2 IN (power)

## LP3991TL-3.0/NOPB
designator U?
300mA Linear Voltage Regulator for Digital Applications, 4-pin Micro SMD, Pb-Free; PartNumber: LP3991TL-3.0/NOPB; Manufacturer: National Semiconductor; PackageTopMarking: X*I; PowerWise: N; CompType: LDO IC; Published: 1-Mar-2010; DatasheetVersion: Sep-2008; PackageVersion: revD, Mar-2005; PackageReference: TLA04ZTA; Publisher: Altium Limited; PackageDescription: Thin Micro SMD, 4 Bump (Large), 0.5mm Pitch; Supplier 1: Digi-Key; Supplier Part Number 1: LP3991TL-3.0TR-ND; Supplier 2: Digi-Key; Supplier Part Number 2: LP3991TL-3.0CT-ND; Supplier 3: Digi-Key; Supplier Part Number 3: LP3991TL-3.0DKR-ND; RoHS: Y; PinCount: 4; Code_JEDEC: MO-211-BA; ComponentLink1Description: LP3991 Datasheet; ComponentLink1URL: http://www.national.com/ds/LP/LP3991.pdf; ComponentLink2Description: LP3991 Web Page; ComponentLink2URL: http://www.national.com/pf/LP/LP3991.html; ComponentLink3Description: TLA04ZTA Package Page; ComponentLink3URL: http://www.national.com/packaging/folders/tla04zta.html
footprint TLA04ZTA (Micro SMD, 4-Leads, Body 1.45x0.96mm, Pitch 0.5mm, NSC Recommended)
pins: A1 GND (power), A2 EN (in), B1 OUT (power), B2 IN (power)

## LP3991TLX-0.8/NOPB
designator U?
300mA Linear Voltage Regulator for Digital Applications, 4-pin Micro SMD, Pb-Free; PartNumber: LP3991TLX-0.8/NOPB; Manufacturer: National Semiconductor; PackageTopMarking: X*I; PowerWise: N; CompType: LDO IC; Published: 1-Mar-2010; DatasheetVersion: Sep-2008; PackageVersion: revD, Mar-2005; PackageReference: TLA04ZTA; Publisher: Altium Limited; PackageDescription: Thin Micro SMD, 4 Bump (Large), 0.5mm Pitch; Supplier 1: Digi-Key; Supplier Part Number 1: LP3991TLX-0.8-ND; RoHS: Y; PinCount: 4; Code_JEDEC: MO-211-BA; ComponentLink1Description: LP3991 Datasheet; ComponentLink1URL: http://www.national.com/ds/LP/LP3991.pdf; ComponentLink2Description: LP3991 Web Page; ComponentLink2URL: http://www.national.com/pf/LP/LP3991.html; ComponentLink3Description: TLA04ZTA Package Page; ComponentLink3URL: http://www.national.com/packaging/folders/tla04zta.html
footprint TLA04ZTA (Micro SMD, 4-Leads, Body 1.45x0.96mm, Pitch 0.5mm, NSC Recommended)
pins: A1 GND (power), A2 EN (in), B1 OUT (power), B2 IN (power)

## LP3991TLX-1.2/NOPB
designator U?
300mA Linear Voltage Regulator for Digital Applications, 4-pin Micro SMD, Pb-Free; PartNumber: LP3991TLX-1.2/NOPB; Manufacturer: National Semiconductor; PackageTopMarking: X*I; PowerWise: Y; CompType: LDO IC; Published: 1-Mar-2010; DatasheetVersion: Sep-2008; PackageVersion: revD, Mar-2005; PackageReference: TLA04ZTA; Publisher: Altium Limited; PackageDescription: Thin Micro SMD, 4 Bump (Large), 0.5mm Pitch; Supplier 1: Digi-Key; Supplier Part Number 1: LP3991TLX-1.2-ND; RoHS: Y; PinCount: 4; Code_JEDEC: MO-211-BA; ComponentLink1Description: LP3991 Datasheet; ComponentLink1URL: http://www.national.com/ds/LP/LP3991.pdf; ComponentLink2Description: LP3991 Web Page; ComponentLink2URL: http://www.national.com/pf/LP/LP3991.html; ComponentLink3Description: TLA04ZTA Package Page; ComponentLink3URL: http://www.national.com/packaging/folders/tla04zta.html
footprint TLA04ZTA (Micro SMD, 4-Leads, Body 1.45x0.96mm, Pitch 0.5mm, NSC Recommended)
pins: A1 GND (power), A2 EN (in), B1 OUT (power), B2 IN (power)

## LP3991TLX-1.3/NOPB
designator U?
300mA Linear Voltage Regulator for Digital Applications, 4-pin Micro SMD, Pb-Free; PartNumber: LP3991TLX-1.3/NOPB; Manufacturer: National Semiconductor; PackageTopMarking: X*I; PowerWise: Y; CompType: LDO IC; Published: 1-Mar-2010; DatasheetVersion: Sep-2008; PackageVersion: revD, Mar-2005; PackageReference: TLA04ZTA; Publisher: Altium Limited; PackageDescription: Thin Micro SMD, 4 Bump (Large), 0.5mm Pitch; Supplier 1: Digi-Key; Supplier Part Number 1: LP3991TLX-1.3-ND; RoHS: Y; PinCount: 4; Code_JEDEC: MO-211-BA; ComponentLink1Description: LP3991 Datasheet; ComponentLink1URL: http://www.national.com/ds/LP/LP3991.pdf; ComponentLink2Description: LP3991 Web Page; ComponentLink2URL: http://www.national.com/pf/LP/LP3991.html; ComponentLink3Description: TLA04ZTA Package Page; ComponentLink3URL: http://www.national.com/packaging/folders/tla04zta.html
footprint TLA04ZTA (Micro SMD, 4-Leads, Body 1.45x0.96mm, Pitch 0.5mm, NSC Recommended)
pins: A1 GND (power), A2 EN (in), B1 OUT (power), B2 IN (power)

## LP3991TLX-1.5/NOPB
designator U?
300mA Linear Voltage Regulator for Digital Applications, 4-pin Micro SMD, Pb-Free; PartNumber: LP3991TLX-1.5/NOPB; Manufacturer: National Semiconductor; PackageTopMarking: X*I; PowerWise: Y; CompType: LDO IC; Published: 1-Mar-2010; DatasheetVersion: Sep-2008; PackageVersion: revD, Mar-2005; PackageReference: TLA04ZTA; Publisher: Altium Limited; PackageDescription: Thin Micro SMD, 4 Bump (Large), 0.5mm Pitch; Supplier 1: Digi-Key; Supplier Part Number 1: LP3991TLX-1.5-ND; RoHS: Y; PinCount: 4; Code_JEDEC: MO-211-BA; ComponentLink1Description: LP3991 Datasheet; ComponentLink1URL: http://www.national.com/ds/LP/LP3991.pdf; ComponentLink2Description: LP3991 Web Page; ComponentLink2URL: http://www.national.com/pf/LP/LP3991.html; ComponentLink3Description: TLA04ZTA Package Page; ComponentLink3URL: http://www.national.com/packaging/folders/tla04zta.html
footprint TLA04ZTA (Micro SMD, 4-Leads, Body 1.45x0.96mm, Pitch 0.5mm, NSC Recommended)
pins: A1 GND (power), A2 EN (in), B1 OUT (power), B2 IN (power)

## LP3991TLX-1.7/NOPB
designator U?
300mA Linear Voltage Regulator for Digital Applications, 4-pin Micro SMD, Pb-Free; PartNumber: LP3991TLX-1.7/NOPB; Manufacturer: National Semiconductor; PackageTopMarking: X*I; PowerWise: N; CompType: LDO IC; Published: 1-Mar-2010; DatasheetVersion: Sep-2008; PackageVersion: revD, Mar-2005; PackageReference: TLA04ZTA; Publisher: Altium Limited; PackageDescription: Thin Micro SMD, 4 Bump (Large), 0.5mm Pitch; Supplier 1: Digi-Key; Supplier Part Number 1: LP3991TLX-1.7-ND; RoHS: Y; PinCount: 4; Code_JEDEC: MO-211-BA; ComponentLink1Description: LP3991 Datasheet; ComponentLink1URL: http://www.national.com/ds/LP/LP3991.pdf; ComponentLink2Description: LP3991 Web Page; ComponentLink2URL: http://www.national.com/pf/LP/LP3991.html; ComponentLink3Description: TLA04ZTA Package Page; ComponentLink3URL: http://www.national.com/packaging/folders/tla04zta.html
footprint TLA04ZTA (Micro SMD, 4-Leads, Body 1.45x0.96mm, Pitch 0.5mm, NSC Recommended)
pins: A1 GND (power), A2 EN (in), B1 OUT (power), B2 IN (power)

## LP3991TLX-1.8/NOPB
designator U?
300mA Linear Voltage Regulator for Digital Applications, 4-pin Micro SMD, Pb-Free; PartNumber: LP3991TLX-1.8/NOPB; Manufacturer: National Semiconductor; PackageTopMarking: X*I; PowerWise: N; CompType: LDO IC; Published: 1-Mar-2010; DatasheetVersion: Sep-2008; PackageVersion: revD, Mar-2005; PackageReference: TLA04ZTA; Publisher: Altium Limited; PackageDescription: Thin Micro SMD, 4 Bump (Large), 0.5mm Pitch; Supplier 1: Digi-Key; Supplier Part Number 1: LP3991TLX-1.8-ND; RoHS: Y; PinCount: 4; Code_JEDEC: MO-211-BA; ComponentLink1Description: LP3991 Datasheet; ComponentLink1URL: http://www.national.com/ds/LP/LP3991.pdf; ComponentLink2Description: LP3991 Web Page; ComponentLink2URL: http://www.national.com/pf/LP/LP3991.html; ComponentLink3Description: TLA04ZTA Package Page; ComponentLink3URL: http://www.national.com/packaging/folders/tla04zta.html
footprint TLA04ZTA (Micro SMD, 4-Leads, Body 1.45x0.96mm, Pitch 0.5mm, NSC Recommended)
pins: A1 GND (power), A2 EN (in), B1 OUT (power), B2 IN (power)

## LP3991TLX-1.55/NOPB
designator U?
300mA Linear Voltage Regulator for Digital Applications, 4-pin Micro SMD, Pb-Free; PartNumber: LP3991TLX-1.55/NOPB; Manufacturer: National Semiconductor; PackageTopMarking: X*I; PowerWise: N; CompType: LDO IC; Published: 1-Mar-2010; DatasheetVersion: Sep-2008; PackageVersion: revD, Mar-2005; PackageReference: TLA04ZTA; Publisher: Altium Limited; PackageDescription: Thin Micro SMD, 4 Bump (Large), 0.5mm Pitch; Supplier 1: Digi-Key; Supplier Part Number 1: LP3991TLX-1.55-ND; RoHS: Y; PinCount: 4; Code_JEDEC: MO-211-BA; ComponentLink1Description: LP3991 Datasheet; ComponentLink1URL: http://www.national.com/ds/LP/LP3991.pdf; ComponentLink2Description: LP3991 Web Page; ComponentLink2URL: http://www.national.com/pf/LP/LP3991.html; ComponentLink3Description: TLA04ZTA Package Page; ComponentLink3URL: http://www.national.com/packaging/folders/tla04zta.html
footprint TLA04ZTA (Micro SMD, 4-Leads, Body 1.45x0.96mm, Pitch 0.5mm, NSC Recommended)
pins: A1 GND (power), A2 EN (in), B1 OUT (power), B2 IN (power)

## LP3991TLX-2.0/NOPB
designator U?
300mA Linear Voltage Regulator for Digital Applications, 4-pin Micro SMD, Pb-Free; PartNumber: LP3991TLX-2.0/NOPB; Manufacturer: National Semiconductor; PackageTopMarking: X*I; PowerWise: N; CompType: LDO IC; Published: 1-Mar-2010; DatasheetVersion: Sep-2008; PackageVersion: revD, Mar-2005; PackageReference: TLA04ZTA; Publisher: Altium Limited; PackageDescription: Thin Micro SMD, 4 Bump (Large), 0.5mm Pitch; Supplier 1: Digi-Key; Supplier Part Number 1: LP3991TLX-2.0-ND; RoHS: Y; PinCount: 4; Code_JEDEC: MO-211-BA; ComponentLink1Description: LP3991 Datasheet; ComponentLink1URL: http://www.national.com/ds/LP/LP3991.pdf; ComponentLink2Description: LP3991 Web Page; ComponentLink2URL: http://www.national.com/pf/LP/LP3991.html; ComponentLink3Description: TLA04ZTA Package Page; ComponentLink3URL: http://www.national.com/packaging/folders/tla04zta.html
footprint TLA04ZTA (Micro SMD, 4-Leads, Body 1.45x0.96mm, Pitch 0.5mm, NSC Recommended)
pins: A1 GND (power), A2 EN (in), B1 OUT (power), B2 IN (power)

## LP3991TLX-2.5/NOPB
designator U?
300mA Linear Voltage Regulator for Digital Applications, 4-pin Micro SMD, Pb-Free; PartNumber: LP3991TLX-2.5/NOPB; Manufacturer: National Semiconductor; PackageTopMarking: X*I; PowerWise: N; CompType: LDO IC; Published: 1-Mar-2010; DatasheetVersion: Sep-2008; PackageVersion: revD, Mar-2005; PackageReference: TLA04ZTA; Publisher: Altium Limited; PackageDescription: Thin Micro SMD, 4 Bump (Large), 0.5mm Pitch; Supplier 1: Digi-Key; Supplier Part Number 1: LP3991TLX-2.5-ND; RoHS: Y; PinCount: 4; Code_JEDEC: MO-211-BA; ComponentLink1Description: LP3991 Datasheet; ComponentLink1URL: http://www.national.com/ds/LP/LP3991.pdf; ComponentLink2Description: LP3991 Web Page; ComponentLink2URL: http://www.national.com/pf/LP/LP3991.html; ComponentLink3Description: TLA04ZTA Package Page; ComponentLink3URL: http://www.national.com/packaging/folders/tla04zta.html
footprint TLA04ZTA (Micro SMD, 4-Leads, Body 1.45x0.96mm, Pitch 0.5mm, NSC Recommended)
pins: A1 GND (power), A2 EN (in), B1 OUT (power), B2 IN (power)

## LP3991TLX-2.8/NOPB
designator U?
300mA Linear Voltage Regulator for Digital Applications, 4-pin Micro SMD, Pb-Free; PartNumber: LP3991TLX-2.8/NOPB; Manufacturer: National Semiconductor; PackageTopMarking: X*I; PowerWise: Y; CompType: LDO IC; Published: 1-Mar-2010; DatasheetVersion: Sep-2008; PackageVersion: revD, Mar-2005; PackageReference: TLA04ZTA; Publisher: Altium Limited; PackageDescription: Thin Micro SMD, 4 Bump (Large), 0.5mm Pitch; Supplier 1: Digi-Key; Supplier Part Number 1: LP3991TLX-2.8-ND; RoHS: Y; PinCount: 4; Code_JEDEC: MO-211-BA; ComponentLink1Description: LP3991 Datasheet; ComponentLink1URL: http://www.national.com/ds/LP/LP3991.pdf; ComponentLink2Description: LP3991 Web Page; ComponentLink2URL: http://www.national.com/pf/LP/LP3991.html; ComponentLink3Description: TLA04ZTA Package Page; ComponentLink3URL: http://www.national.com/packaging/folders/tla04zta.html
footprint TLA04ZTA (Micro SMD, 4-Leads, Body 1.45x0.96mm, Pitch 0.5mm, NSC Recommended)
pins: A1 GND (power), A2 EN (in), B1 OUT (power), B2 IN (power)

## LP3991TLX-3.0/NOPB
designator U?
300mA Linear Voltage Regulator for Digital Applications, 4-pin Micro SMD, Pb-Free; PartNumber: LP3991TLX-3.0/NOPB; Manufacturer: National Semiconductor; PackageTopMarking: X*I; PowerWise: N; CompType: LDO IC; Published: 1-Mar-2010; DatasheetVersion: Sep-2008; PackageVersion: revD, Mar-2005; PackageReference: TLA04ZTA; Publisher: Altium Limited; PackageDescription: Thin Micro SMD, 4 Bump (Large), 0.5mm Pitch; Supplier 1: Digi-Key; Supplier Part Number 1: LP3991TLX-3.0-ND; RoHS: Y; PinCount: 4; Code_JEDEC: MO-211-BA; ComponentLink1Description: LP3991 Datasheet; ComponentLink1URL: http://www.national.com/ds/LP/LP3991.pdf; ComponentLink2Description: LP3991 Web Page; ComponentLink2URL: http://www.national.com/pf/LP/LP3991.html; ComponentLink3Description: TLA04ZTA Package Page; ComponentLink3URL: http://www.national.com/packaging/folders/tla04zta.html
footprint TLA04ZTA (Micro SMD, 4-Leads, Body 1.45x0.96mm, Pitch 0.5mm, NSC Recommended)
pins: A1 GND (power), A2 EN (in), B1 OUT (power), B2 IN (power)

## LP3992IMFX-1.5
designator U?
Micropower 1.5V CMOS Voltage Regulator with Shutdown Control, 5-pin SOT-23; PartNumber: LP3992IMFX-1.5; Manufacturer: National Semiconductor; PackageTopMarking: LFHB*XTT; PowerWise: N; CompType: LDO IC; Published: 1-Mar-2010; DatasheetVersion: Dec-2002; PackageVersion: revD, Aug-2008; PackageReference: MF05A; Publisher: Altium Limited; PackageDescription: Molded SOT-23, .115 x .063 x .040 in Body, 5 Lead, .0375 in Pitch; RoHS: N; PinCount: 5; ComponentLink1Description: LP3992 Datasheet; ComponentLink1URL: http://www.national.com/ds/LP/LP3992.pdf; ComponentLink2Description: LP3992 Web Page; ComponentLink2URL: http://www.national.com/pf/LP/LP3992.html; ComponentLink3Description: MF05A Package Page; ComponentLink3URL: http://www.national.com/packaging/folders/mf05a.html
footprint MF05A_N (SOT23, 5-Leads, Body 2.9x1.6mm, Pitch 0.95mm, Lead Span 2.8mm, IPC Medium Density)
footprint MF05A_L (SOT23, 5-Leads, Body 2.9x1.6mm, Pitch 0.95mm, Lead Span 2.8mm, IPC High Density)
footprint MF05A_M (SOT23, 5-Leads, Body 2.9x1.6mm, Pitch 0.95mm, Lead Span 2.8mm, IPC Low Density)
pins: 1 IN (power), 2 GND (power), 3 ~{SD} (in), 4 COUT, 5 OUT (power)

## LP3992IMFX-1.5/NOPB
designator U?
Micropower 1.5V CMOS Voltage Regulator with Shutdown Control, 5-pin SOT-23, Pb-Free; PartNumber: LP3992IMFX-1.5/NOPB; Manufacturer: National Semiconductor; PackageTopMarking: LFHB*XTT; PowerWise: N; CompType: LDO IC; Published: 1-Mar-2010; DatasheetVersion: Dec-2002; PackageVersion: revD, Aug-2008; PackageReference: MF05A; Publisher: Altium Limited; PackageDescription: Molded SOT-23, .115 x .063 x .040 in Body, 5 Lead, .0375 in Pitch; Supplier 1: Digi-Key; Supplier Part Number 1: LP3992IMFX-1.5-ND; RoHS: Y; PinCount: 5; ComponentLink1Description: LP3992 Datasheet; ComponentLink1URL: http://www.national.com/ds/LP/LP3992.pdf; ComponentLink2Description: LP3992 Web Page; ComponentLink2URL: http://www.national.com/pf/LP/LP3992.html; ComponentLink3Description: MF05A Package Page; ComponentLink3URL: http://www.national.com/packaging/folders/mf05a.html
footprint MF05A_N (SOT23, 5-Leads, Body 2.9x1.6mm, Pitch 0.95mm, Lead Span 2.8mm, IPC Medium Density)
footprint MF05A_L (SOT23, 5-Leads, Body 2.9x1.6mm, Pitch 0.95mm, Lead Span 2.8mm, IPC High Density)
footprint MF05A_M (SOT23, 5-Leads, Body 2.9x1.6mm, Pitch 0.95mm, Lead Span 2.8mm, IPC Low Density)
pins: 1 IN (power), 2 GND (power), 3 ~{SD} (in), 4 COUT, 5 OUT (power)